# Altium schematic symbol library RF.Switches.SchLib: 17 symbols
Pins are listed as number, name and electrical type; pins without a type are passive.

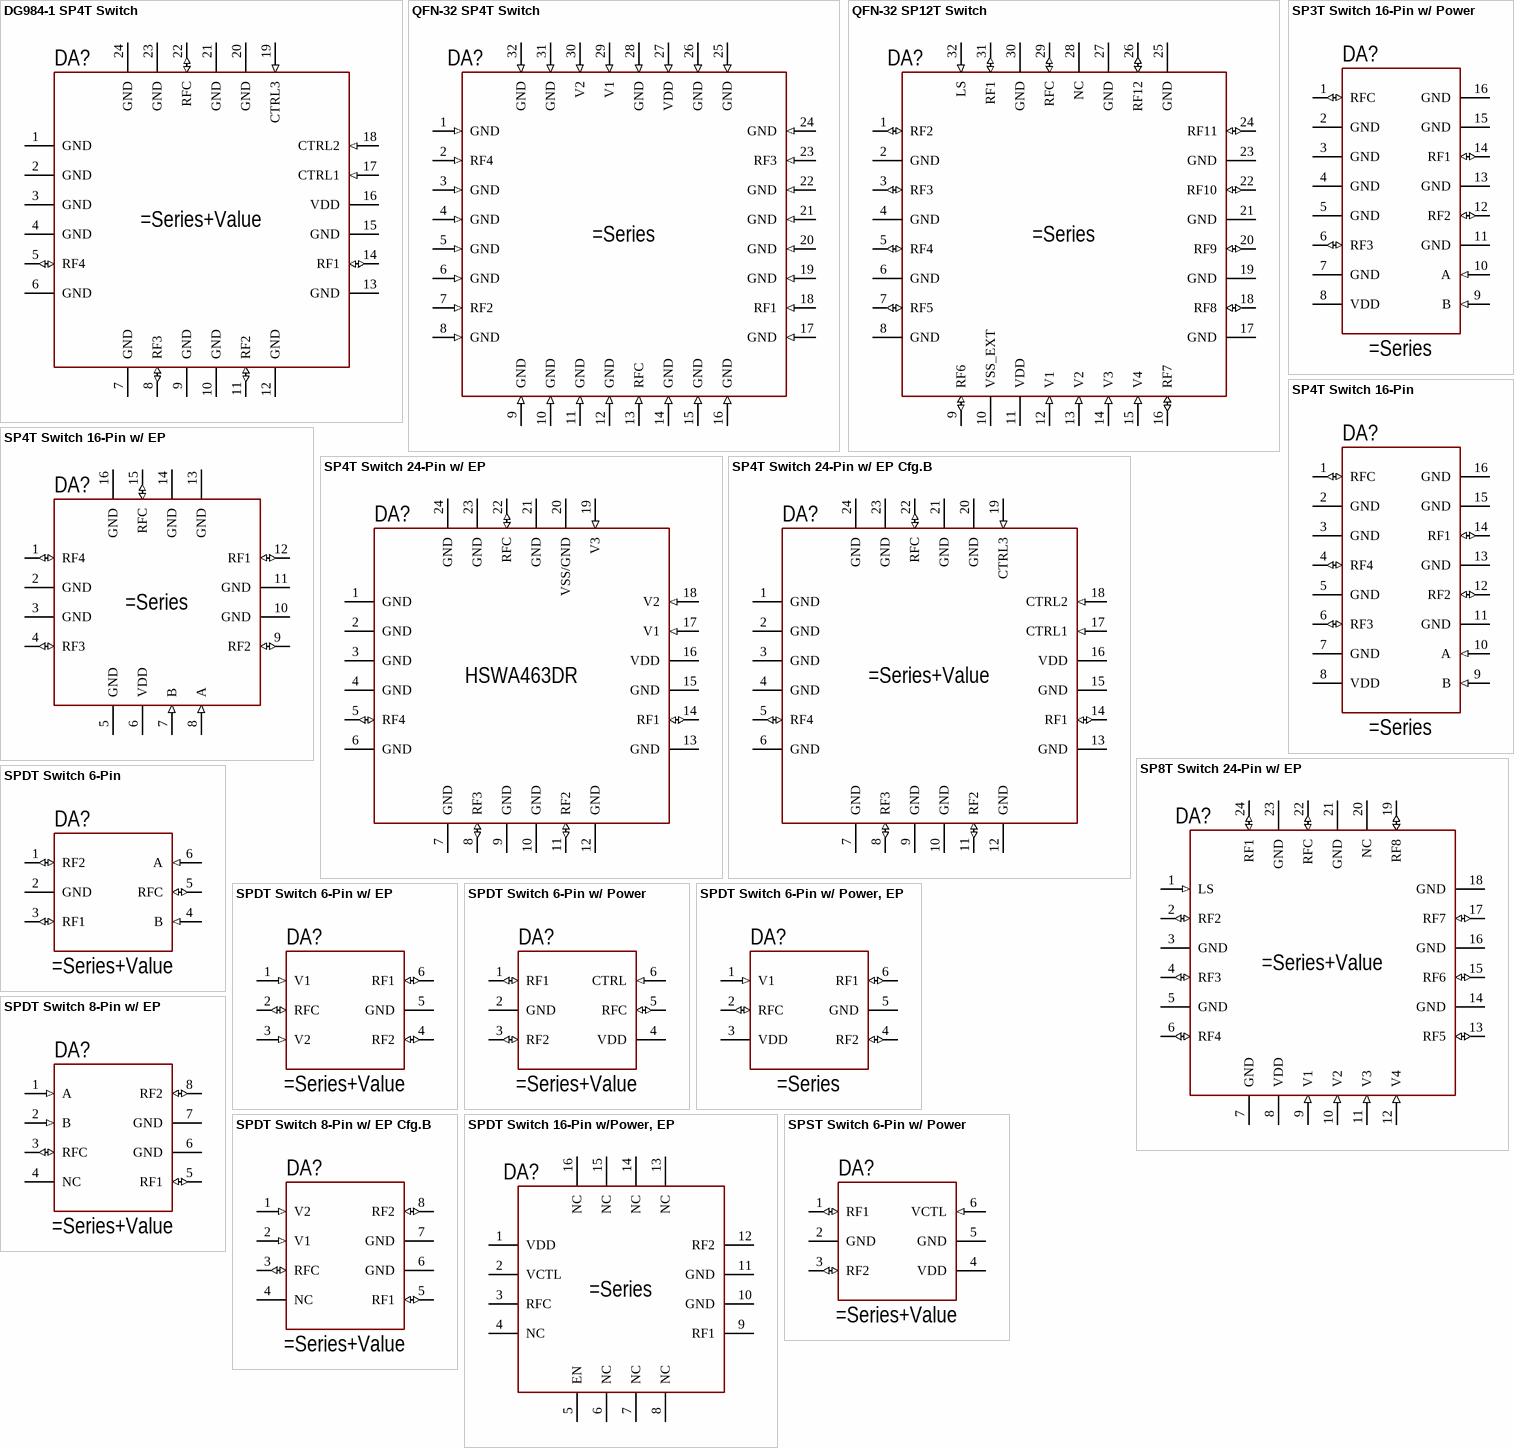
[diagram p0: symbols DG984-1 SP4T Switch to SPST Switch 6-Pin w/ Power]

## DG984-1 SP4T Switch
designator DA?
RF SP4T Switch, DG984-1 Package
pins: 1 GND, 2 GND, 3 GND, 4 GND, 5 RF4 (io), 6 GND, 7 GND, 8 RF3 (io), 9 GND, 10 GND, 11 RF2 (io), 12 GND, 13 GND, 14 RF1 (io), 15 GND, 16 VDD, 17 CTRL1 (in), 18 CTRL2 (in), 19 CTRL3 (in), 20 GND, 21 GND, 22 RFC (io), 23 GND, 24 GND, PAD GND hidden to GND

## QFN-32 SP4T Switch
designator DA?
RF SP4T Switch, 32-Lead QFN Package
pins: 1 GND (in), 2 RF4 (in), 3 GND (in), 4 GND (in), 5 GND (in), 6 GND (in), 7 RF2 (in), 8 GND (in), 9 GND (in), 10 GND (in), 11 GND (in), 12 GND (in), 13 RFC (in), 14 GND (in), 15 GND (in), 16 GND (in), 17 GND (in), 18 RF1 (in), 19 GND (in), 20 GND (in), 21 GND (in), 22 GND (in), 23 RF3 (in), 24 GND (in), 25 GND (in), 26 GND (in), 27 VDD (in), 28 GND (in), 29 V1 (in), 30 V2 (in), 31 GND (in), 32 GND (in), PAD GND hidden to GND

## QFN-32 SP12T Switch
designator DA?
RF SP12T Switch, 32-Lead QFN Package
pins: 1 RF2 (io), 2 GND, 3 RF3 (io), 4 GND, 5 RF4 (io), 6 GND, 7 RF5 (io), 8 GND, 9 RF6 (io), 10 VSS_EXT, 11 VDD, 12 V1 (in), 13 V2 (in), 14 V3 (in), 15 V4 (in), 16 RF7 (io), 17 GND, 18 RF8 (io), 19 GND, 20 RF9 (io), 21 GND, 22 RF10 (io), 23 GND, 24 RF11 (io), 25 GND, 26 RF12 (io), 27 GND, 28 NC, 29 RFC (io), 30 GND, 31 RF1 (io), 32 LS (in), PAD GND hidden to GND

## SP3T Switch 16-Pin w/ Power
designator DA?
RF SP3T Switch, 16-Lead Package
pins: 1 RFC (io), 2 GND, 3 GND, 4 GND, 5 GND, 6 RF3 (io), 7 GND, 8 VDD, 9 B (in), 10 A (in), 11 GND, 12 RF2 (io), 13 GND, 14 RF1 (io), 15 GND, 16 GND

## SP4T Switch 16-Pin
designator DA?
RF SP4T Switch, 16-Lead Package
pins: 1 RFC (io), 2 GND, 3 GND, 4 RF4 (io), 5 GND, 6 RF3 (io), 7 GND, 8 VDD, 9 B (in), 10 A (in), 11 GND, 12 RF2 (io), 13 GND, 14 RF1 (io), 15 GND, 16 GND

## SP4T Switch 16-Pin w/ EP
designator DA?
RF SP4T Switch, 16-Lead Package with Exposed Pad
pins: 1 RF4 (io), 2 GND, 3 GND, 4 RF3 (io), 5 GND, 6 VDD, 7 B (in), 8 A (in), 9 RF2 (io), 10 GND, 11 GND, 12 RF1 (io), 13 GND, 14 GND, 15 RFC (io), 16 GND

## SP4T Switch 24-Pin w/ EP
designator DA?, comment HSWA463DR
RF SP4T Switch, 24-Lead Package with Exposed Pad; Value: 63DR; Series: HSWA4
pins: 1 GND, 2 GND, 3 GND, 4 GND, 5 RF4 (io), 6 GND, 7 GND, 8 RF3 (io), 9 GND, 10 GND, 11 RF2 (io), 12 GND, 13 GND, 14 RF1 (io), 15 GND, 16 VDD, 17 V1 (in), 18 V2 (in), 19 V3 (in), 20 VSS/GND, 21 GND, 22 RFC (io), 23 GND, 24 GND, PAD GND hidden to GND

## SP4T Switch 24-Pin w/ EP Cfg.B
designator DA?
RF SP4T Switch, 24-Lead Package with Exposed Pad
pins: 1 GND, 2 GND, 3 GND, 4 GND, 5 RF4 (io), 6 GND, 7 GND, 8 RF3 (io), 9 GND, 10 GND, 11 RF2 (io), 12 GND, 13 GND, 14 RF1 (io), 15 GND, 16 VDD, 17 CTRL1 (in), 18 CTRL2 (in), 19 CTRL3 (in), 20 GND, 21 GND, 22 RFC (io), 23 GND, 24 GND, PAD GND hidden to GND

## SP8T Switch 24-Pin w/ EP
designator DA?
RF SP8T Switch, 24-Lead Package with Exposed Pad
pins: 1 LS (in), 2 RF2 (io), 3 GND, 4 RF3 (io), 5 GND, 6 RF4 (io), 7 GND, 8 VDD (power), 9 V1 (in), 10 V2 (in), 11 V3 (in), 12 V4 (in), 13 RF5 (io), 14 GND, 15 RF6 (io), 16 GND, 17 RF7 (io), 18 GND, 19 RF8 (io), 20 NC, 21 GND, 22 RFC (io), 23 GND, 24 RF1 (io), PAD GND hidden to GND

## SPDT Switch 6-Pin
designator DA?
RF SPDT Switch, 6-Lead Package
pins: 1 RF2 (io), 2 GND, 3 RF1 (io), 4 B (in), 5 RFC (io), 6 A (in)

## SPDT Switch 6-Pin w/ EP
designator DA?
RF SPDT Switch, 6-Lead Package
pins: 1 V1 (in), 2 RFC (io), 3 V2 (in), 4 RF2 (io), 5 GND, 6 RF1 (io), PAD GND hidden to GND

## SPDT Switch 6-Pin w/ Power
designator DA?
RF SPDT Switch with Power, 6-Lead Package
pins: 1 RF1 (io), 2 GND, 3 RF2 (io), 4 VDD, 5 RFC (io), 6 CTRL (in)

## SPDT Switch 6-Pin w/ Power, EP
designator DA?
RF SPDT Switch with Power, 6-Lead Packge with Exposed Pad
pins: 1 V1 (in), 2 RFC (io), 3 VDD, 4 RF2 (io), 5 GND, 6 RF1 (io), PAD GND hidden to GND

## SPDT Switch 8-Pin w/ EP
designator DA?
RF SPDT Switch, 8-Lead Package with Exposed Pad
pins: 1 A (in), 2 B (in), 3 RFC (io), 4 NC, 5 RF1 (io), 6 GND, 7 GND, 8 RF2 (io), PAD GND hidden to GND

## SPDT Switch 8-Pin w/ EP Cfg.B
designator DA?
RF SPDT Switch, 8-Lead Package with Exposed Pad
pins: 1 V2 (in), 2 V1 (in), 3 RFC (io), 4 NC, 5 RF1 (io), 6 GND, 7 GND, 8 RF2 (io), PAD GND hidden to GND

## SPDT Switch 16-Pin w/Power, EP
designator DA?
RF SPDT Switch, 16-Lead Package with Exposed Pad
pins: 1 VDD, 2 VCTL, 3 RFC, 4 NC, 5 EN, 6 NC, 7 NC, 8 NC, 9 RF1, 10 GND, 11 GND, 12 RF2, 13 NC, 14 NC, 15 NC, 16 NC, PAD GND hidden to GND

## SPST Switch 6-Pin w/ Power
designator DA?
RF SPST Switch with Power, 6-Lead Package
footprint SOT-23-6 (RJ-6) (SOT-23, 6-Leads, Body 2.90x2.80mm, Pitch 0.95mm, IPC Medium Density)
pins: 1 RF1 (io), 2 GND, 3 RF2 (io), 4 VDD, 5 GND, 6 VCTL (in)